# EAGLE library part BOARD-IC-AE-UM232R (library mylib)
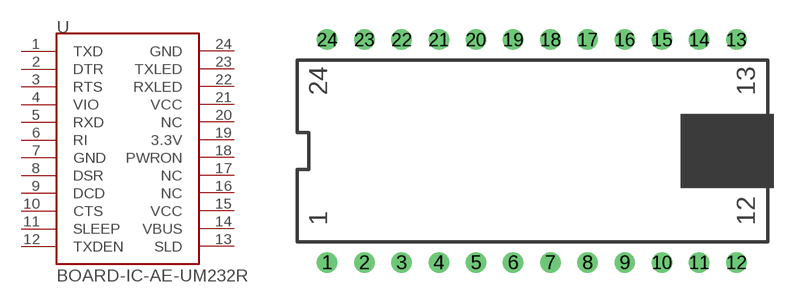
[diagram p18: symbol with the pads of IC-AE-UM232R; footprint IC-AE-UM232R]

Designator prefix U

## BOARD-IC-AE-UM232R  [IC-AE-UM232R]
1  TXD
2  DTR
3  RTS
4  VIO
5  RXD
6  RI
7  GND
8  DSR
9  DCD
10  CTS
11  SLEEP
12  TXDEN
13  SLD
14  VBUS
15  VCC
16  NC
17  NC
18  PWRON
19  3.3V
20  NC
21  VCC
22  RXLED
23  TXLED
24  GND

## Footprint IC-AE-UM232R (pad centres in mm)
drill 0.889: 1 -13.97,-7.62; 2 -11.43,-7.62; 3 -8.89,-7.62; 4 -6.35,-7.62; 5 -3.81,-7.62; 6 -1.27,-7.62; 7 1.27,-7.62; 8 3.81,-7.62; 9 6.35,-7.62; 10 8.89,-7.62; 11 11.43,-7.62; 12 13.97,-7.62; 13 13.97,7.62; 14 11.43,7.62; 15 8.89,7.62; 16 6.35,7.62; 17 3.81,7.62; 18 1.27,7.62; 19 -1.27,7.62; 20 -3.81,7.62; 21 -6.35,7.62; 22 -8.89,7.62; 23 -11.43,7.62; 24 -13.97,7.62